# EAGLE library part SEEED-SWITCH_DIP-TOGGLE-SWITCH-2CH-(2X3P-2.54) (library PiezoFFC)
311010004
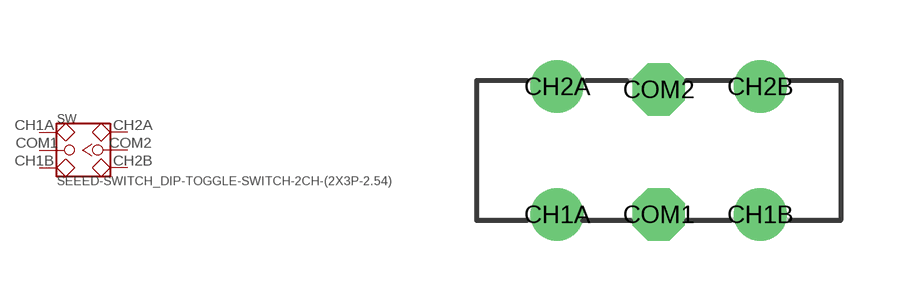
[diagram p9: symbol with the pads of SEEED-SWITCH_SW6-2.54-9.0X3.5X3.2+2.0MM; footprint SEEED-SWITCH_SW6-2.54-9.0X3.5X3.2+2.0MM]

Designator prefix SW

## SEEED-SWITCH_DIP-TOGGLE-SWITCH-2CH-(2X3P-2.54)DPDT_254_6P_UPDATE  [SEEED-SWITCH_SW6-2.54-9.0X3.5X3.2+2.0MM]
CH1A  CH1A
CH1B  CH1B
CH2A  CH2A
CH2B  CH2B
COM1  COM1
COM2  COM2

## Footprint SEEED-SWITCH_SW6-2.54-9.0X3.5X3.2+2.0MM (pad centres in mm)
drill 0.813 pad 1.27: CH1A -2.54,-1.6; CH1B 2.54,-1.6; CH2A -2.54,1.6; CH2B 2.54,1.6
drill 0.813 pad 1.27 octagon: COM1 0,-1.6; COM2 0,1.524